# Altium footprint library lpc54110.PcbLib: 28 footprints (part 2 of 2)
Each footprint in its own frame and in the unit in brackets; x right, y up, seen from the top. Pads: shape width x height; smd on the part's side, far side on the other; paste and mask are expansions set on the pad; w line width, h text height; cw(c..) or ccw(c..) is an arc to the next point about the centre after c.
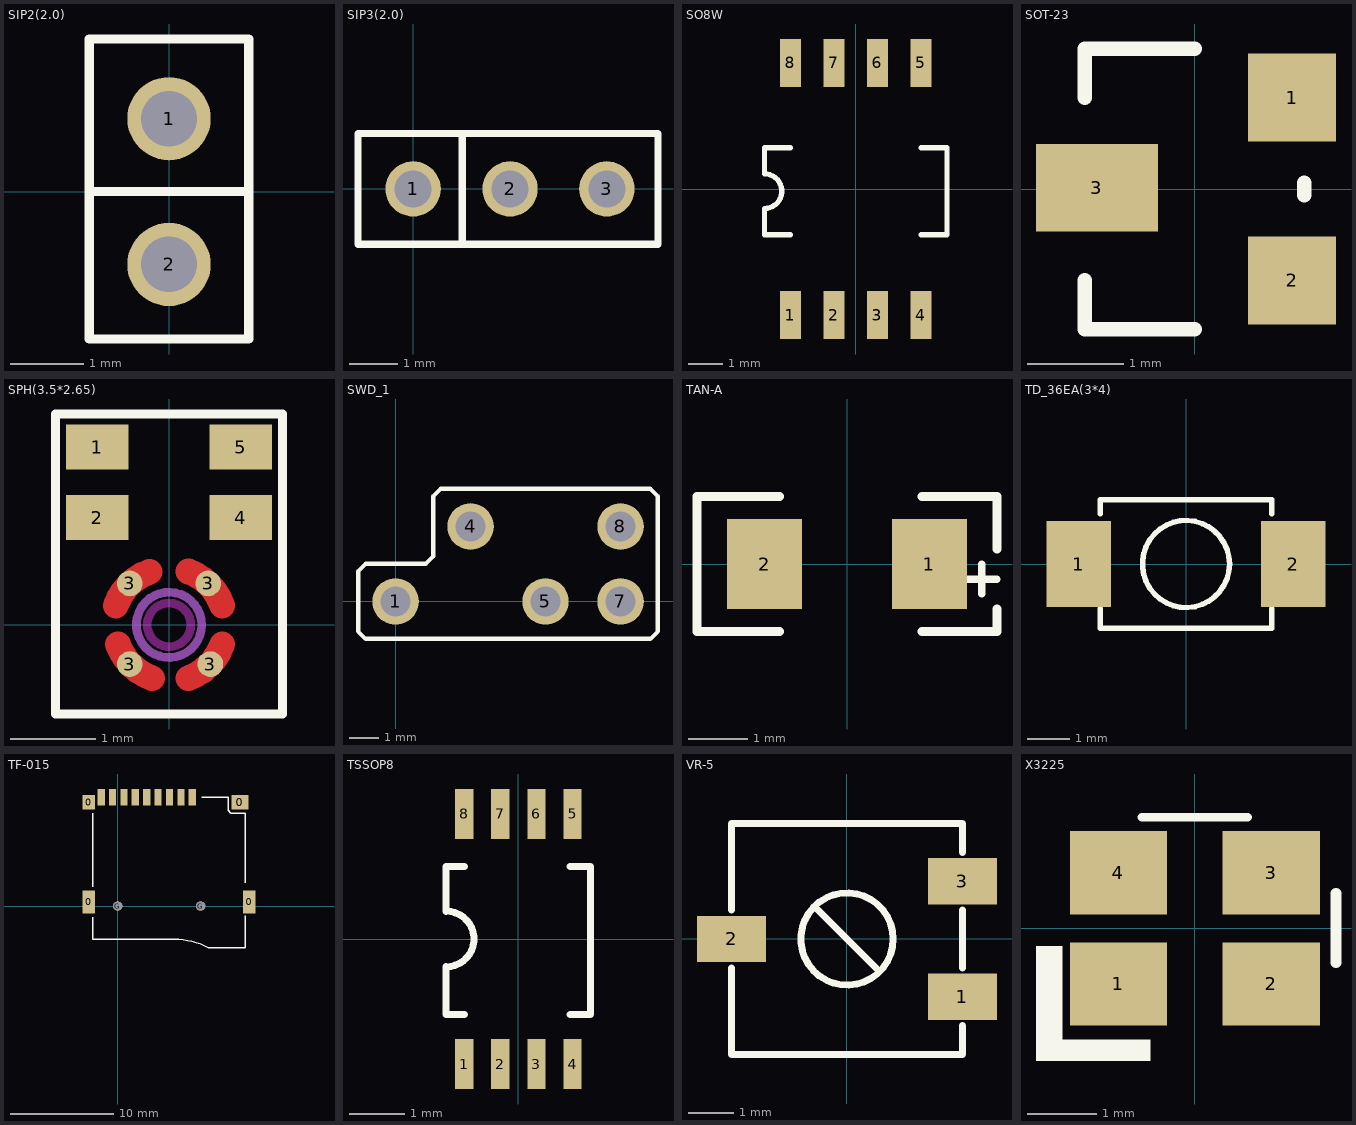
[diagram p1: the footprints below, top view; thin cyan lines are the x and y axes]

## SIP2(2.0) [mil]
pads (2):
  round 45 hole 30: 1(0,39.37) 2(0,-39.37)
Top Overlay:
  lines w5: -43,0 43,0 ; -43,-79.63 43,-79.63 43,82.37 -43,82.37 -43,-79.63

## SIP3(2.0) [mil]
pads (3):
  round 45 hole 30: 1(0,0) 2(78.74,0) 3(157.48,0)
Top Overlay:
  lines w6: -44.82,-45.16 -44.82,44.84 ; -44.82,-45 199.02,-45 199.02,45 -44.82,45 ; 40,-45 40,45

## SO8W [mil]
pads (8):
  rect 24x55 smd: 1(-75,-145) 2(-25,-145) 3(25,-145) 4(75,-145) 5(75,145) 6(25,145) 7(-25,145) 8(-75,145)
Top Overlay:
  lines w6: -75,-52.5 -105,-52.5 -105,-22.5 ccw(c-105,-2.5) -105,17.5 -105,47.5 -75,47.5 ; 75,-52.5 105,-52.5 105,47.5 75,47.5

## SOT-23 [mil]
pads (3):
  rect 36x36 smd: 1(40,37.5) 2(40,-37.5)
  rect 50x36 smd: 3(-40,0.5)
Top Overlay:
  lines w6: -45,-37.5 -45,-57.5 0,-57.5 ; -45,37.5 -45,57.5 0,57.5 ; 45,-2.5 45,2.5

## SPH(3.5*2.65) [mm]
pads (8):
  rect 0.725x0.522 smd: 1(-0.837,2.074) 2(-0.837,1.252) 4(0.837,1.252) 5(0.837,2.074)
  round 0.3 smd: 3(-0.457,-0.457) 3(-0.457,0.483) 3(0.457,0.483) 3(0.483,-0.457)
Top Layer:
  lines w0.3: -0.623,0.224 cw(c0,-0.002) -0.227,0.62 ; -0.595,-0.227 ccw(c0.028,0) -0.199,-0.623 ; 0.227,-0.623 ccw(c0,0) 0.623,-0.227 ; 0.227,0.623 cw(c0,0) 0.623,0.227
Top Overlay:
  lines w0.102: -1.325,-1.04 -1.325,2.46 1.325,2.46 1.325,-1.04 -1.325,-1.04
Top Paste:
  lines w0.3: -0.619,0.223 cw(c0.004,-0.004) -0.223,0.619 ; -0.591,-0.228 ccw(c0.032,-0.002) -0.195,-0.624 ; 0.231,-0.624 ccw(c0.004,-0.002) 0.627,-0.228 ; 0.231,0.621 cw(c0.004,-0.002) 0.627,0.225
Top Solder:
  lines w0.3: -0.623,0.224 cw(c0,-0.002) -0.227,0.62 ; -0.595,-0.227 ccw(c0.028,0) -0.199,-0.623 ; 0.227,-0.623 ccw(c0,0) 0.623,-0.227 ; 0.227,0.623 cw(c0,0) 0.623,0.227
Keep-Out Layer:
  circle w0.102: c0,0 r0.254
Mechanical 1:
  circle w0.102: c0,0 r0.381

## SWD_1 [mil]
pads (5):
  round 62 hole 40: 1(0,0) 4(100,100) 5(200,0) 7(300,0) 8(300,100)
Top Overlay:
  lines w6: -50,-40 -40,-50 340,-50 350,-40 350,140 340,150 60,150 50,140 50,60 40,50 -40,50 -50,40 -50,-40

## TAN-A [mil]
pads (2):
  rect 50x60 smd: 1(55,0) 2(-55,0)
Top Overlay:
  lines w5: 80,-10 100,-10 ; 90,-20 90,0
  lines w6: -45,-45 -100,-45 -100,45 -45,45 ; 50,-45 100,-45 100,-30 ; 50,45 100,45 100,10

## TD_36EA(3*4) [mm]
pads (2):
  rect 1.5x2 smd: 1(-2.5,0) 2(2.5,0)
Top Overlay:
  circle w0.127: c0,0 r1.016
  lines w0.127: -2,-1.048 -2,-1.5 2,-1.5 2,-1.048 ; -2,1.175 -2,1.5 2,1.5 2,1.175

## TF-015 [mm]
pads (15):
  rect 1.2x2.2 smd: 0(-2.8,0.4) 0(12.7,0.4)
  rect 1.2x1.4 smd: 0(-2.8,10)
  rect 1.6x1.4 smd: 0(11.8,10)
  rect 0.7x1.6 smd: 1(7.2,10.5) 2(6.1,10.5) 3(5,10.5) 4(3.9,10.5) 5(2.8,10.5) 6(1.7,10.5) 7(0.6,10.5) 8(-0.5,10.5) 9(-1.6,10.5)
  round 0.9 hole 0.9 unplated: G(0,0) G(8,0)
Top Overlay:
  lines w0.127: -2.4,-1.073 -2.4,-3.216 5.461,-3.216 ; -2.4,1.88 -2.4,7.325 -2.4,8.96 ; 5.482,-3.213 cw(c5.482,-10.434) 8.76,-4 12.3,-4 12.3,-2.2 12.3,-0.93 ; 8.125,10.5 10.03,10.5 10.665,10.5 10.665,9.23 10.919,8.976 ; 10.935,8.96 12.3,8.96 12.3,8.595 12.3,2.245

## TSSOP8 [mm]
pads (8):
  rect 0.33x0.9 smd: 1(-0.975,-2.25) 2(-0.325,-2.25) 3(0.325,-2.25) 4(0.975,-2.25) 5(0.975,2.25) 6(0.325,2.25) 7(-0.325,2.25) 8(-0.975,2.25)
Top Overlay:
  lines w0.127: -0.975,-1.361 -1.3,-1.361 -1.3,-0.5 ccw(c-1.3,0) -1.3,0.5 -1.3,1.306 -0.975,1.306 ; 0.93,-1.361 1.3,-1.361 1.3,1.306 0.93,1.306

## VR-5 [mil]
pads (3):
  rect 60x40 smd: 1(100,-50) 2(-100,0) 3(100,50)
Top Overlay:
  circle w6: c0,0 r40
  lines w6: -100,-25 -100,-100 100,-100 100,-75 ; -100,25 -100,100 100,100 100,75 ; -25,25 25,-25 ; 100,-25 100,25

## X3225 [mm]
pads (4):
  rect 1.4x1.2 smd mask-0.051: 1(-1.1,-0.8) 2(1.1,-0.8) 3(1.1,0.8) 4(-1.1,0.8)
Top Overlay:
  rectangle: -2.159,-1.905 -0.635,-1.6
  rectangle: -2.286,-1.905 -1.905,-0.254
  lines w0.127: -2.032,-1.549 -2.032,-0.492 ; -0.762,1.6 0.762,1.6
  lines w0.152: 2.032,-0.492 2.032,0.508